# EAGLE library part TPS56339 (library untitled)
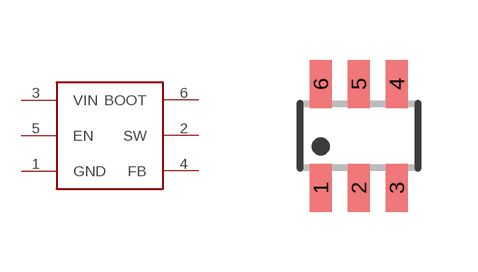
[diagram p0: symbol with the pads of TEXAS_SOT23-6; footprint TEXAS_SOT23-6]

Designator prefix -

## TPS56339SOT23-6  [TEXAS_SOT23-6]
1  GND
2  SW
3  VIN
4  FB
5  EN
6  BOOT

## Footprint TEXAS_SOT23-6 (pad centres in mm)
SOT-23 - DBV 0.95 mm pitch
smd 0.55 x 1.2: 1 -0.95,-1.3; 2 0,-1.3; 3 0.95,-1.3; 4 0.95,1.3; 5 0,1.3; 6 -0.95,1.3